# EAGLE library part DWA8_MINI (library esp-library)
ESP8266 Wifi module DWA8-MINI
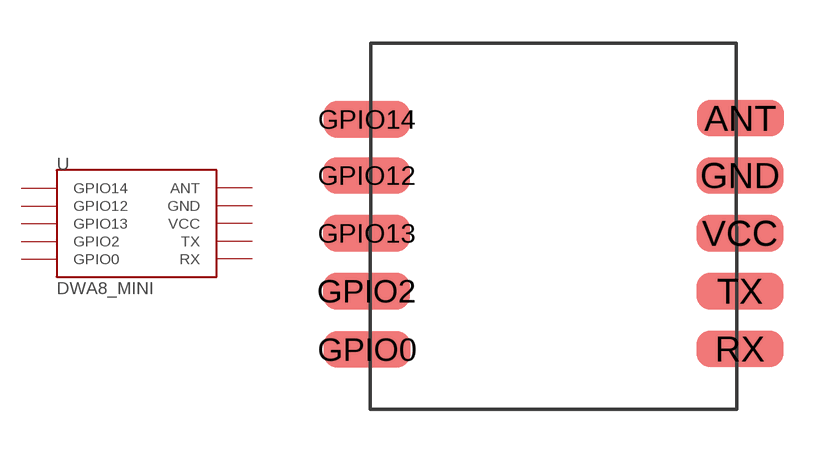
[diagram p8: symbol with the pads of DWA8_MINI; footprint DWA8_MINI]

Designator prefix -

## DWA8_MINI  [DWA8_MINI]
ANT  ANT
GND  GND
GPIO0  GPIO0
GPIO2  GPIO2
GPIO12  GPIO12
GPIO13  GPIO13
GPIO14  GPIO14
RX  RX
TX  TX
VCC  VCC

## Footprint DWA8_MINI (pad centres in mm)
ESP8266 Wifi module DWA8-mini
smd 3 x 1.27: ANT 6.49,3.84; GND 6.47,1.86; GPIO0 -6.41,-4.16; GPIO2 -6.43,-2.14; GPIO12 -6.43,1.86; GPIO13 -6.43,-0.14; GPIO14 -6.42,3.8; RX 6.47,-4.14; TX 6.47,-2.14; VCC 6.47,-0.14